# Altium schematic symbol library PT_6PIN_3.5mm.SchLib: 1 symbol
Pins are listed as number, name and electrical type; pins without a type are passive.

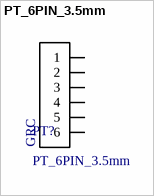
[diagram p0: symbol PT_6PIN_3.5mm]

## PT_6PIN_3.5mm
designator PT?
footprint PT_6PIN_3.5mm
pins: 1, 2, 3, 4, 5, 6
text: GRC